# Altium integrated library RC0603FR-0753R6L.IntLib: 1 symbol
Pins are listed as number, name and electrical type; pins without a type are passive.

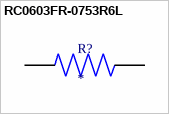
[diagram p0: symbol RC0603FR-0753R6L]

## RC0603FR-0753R6L
designator R?
Res Thick Film 0603 53.6 Ohm 1% 0.1W(1/10W) ?100ppm/?C Molded SMD Paper T/R; MP: RC0603FR-0753R6L; Package: None; Price: None; Value: *; Availability: Unavailable
footprint RESC1608X55N
pins: 1, 2